# Altium footprint library CON IP5-04-01-x-S-RA1-L.PcbLib: 1 footprints
Each footprint in its own frame and in the unit in brackets; x right, y up, seen from the top. Pads: shape width x height; smd on the part's side, far side on the other; paste and mask are expansions set on the pad; w line width, h text height; cw(c..) or ccw(c..) is an arc to the next point about the centre after c.
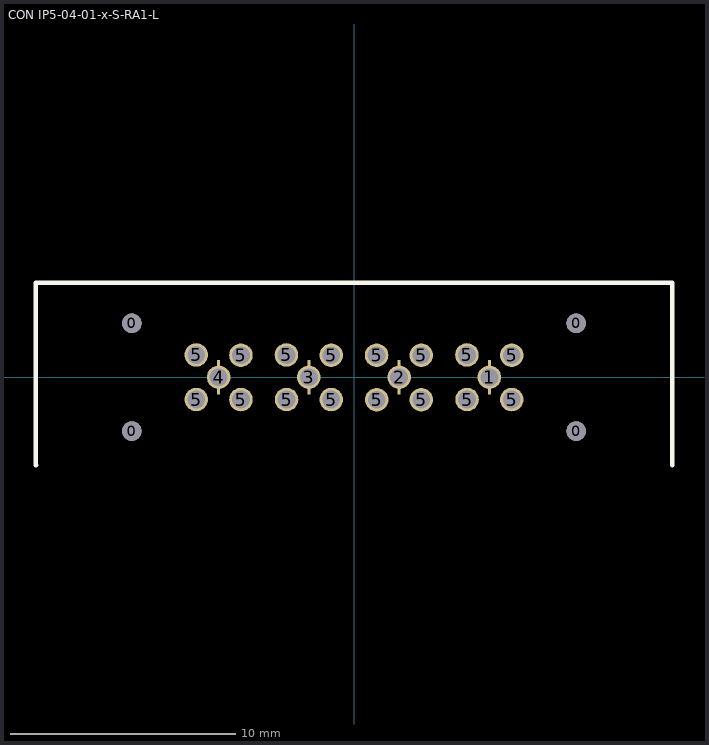
[diagram p0: the footprint, top view; thin cyan lines are the x and y axes]

## CON IP5-04-01-x-S-RA1-L [mil] "Samtec IP5-04-01-x-S-RA1-L High Isolation Plugs"
height 351
pads (32):
  round 34 hole 34 paste+0 mask+0: 0(-387.75,-94) 0(-387.75,94) 0(387.75,-94) 0(387.75,94)
  rect 5x14.5 smd: 1(236.25,-22.75) 1(236.25,22.75) 2(78.75,-22.75) 2(78.75,22.75) 3(-78.75,-22.75) 3(-78.75,22.75) 4(-236.25,-22.75) 4(-236.25,22.75)
  round 41 hole 31: 1(236.25,0) 2(78.75,0) 3(-78.75,0) 4(-236.25,0) 5(-275.4,38.7) 5(-275.25,-39) 5(-197.35,-39.1) 5(-197.35,38.4) 5(-117.9,38.7) 5(-117.75,-39) 5(-39.85,-39.1) 5(-39.85,38.4) 5(39.35,38.4) 5(39.5,-39.3) 5(117.4,-39.4) 5(117.4,38.1) 5(197.1,38.7) 5(197.25,-39) 5(275.15,-39.1) 5(275.15,38.4)
TopOverlay:
  lines w8: -555,-154 -555.25,-153.75 -555.25,165 555.25,165 555.25,-154
3D body: height 351.65, standoff -59.4, extent -465.36,-423.3 465.36,156.31